# Altium schematic symbol library LCM.SchLib: 3 symbols
Pins are listed as number, name and electrical type; pins without a type are passive.

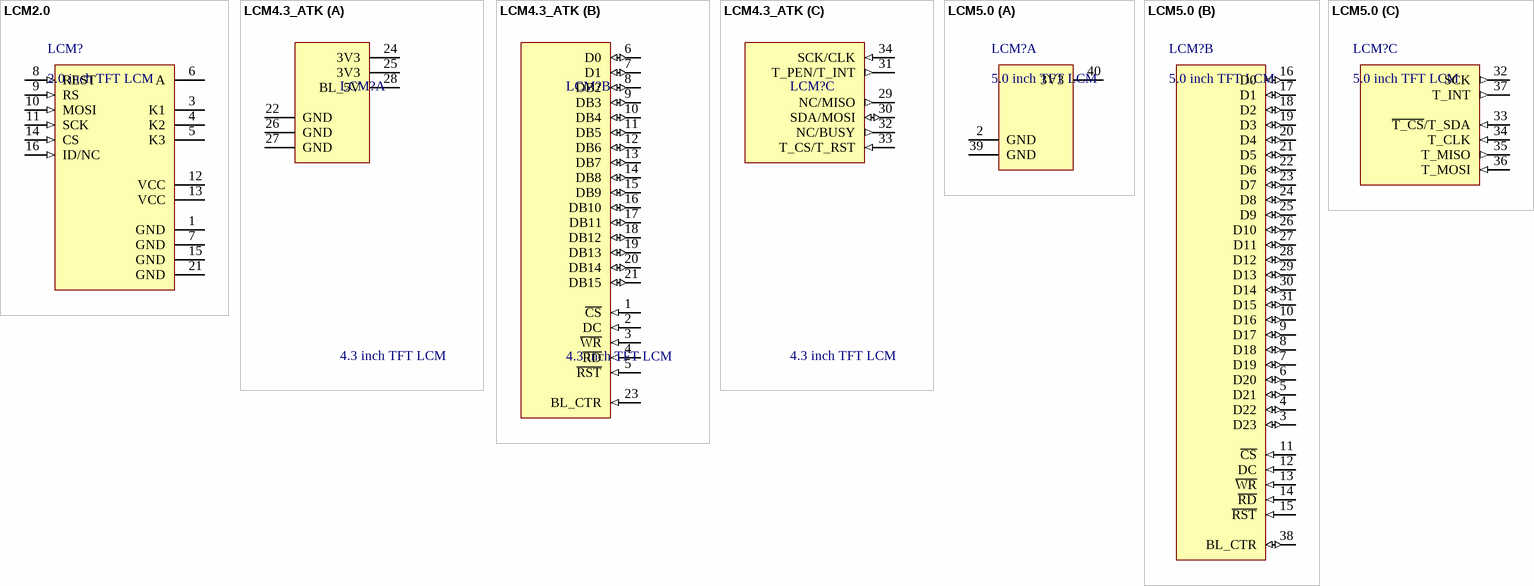
[diagram p0: symbols LCM2.0 to LCM5.0]

## LCM2.0
designator LCM?, comment 2.0 inch TFT LCM
footprint LCM2.0 (Footprint not found)
pins: 1 GND (power), 3 K1 (power), 4 K2 (power), 5 K3 (power), 6 A (power), 7 GND (power), 8 REST (in), 9 RS (in), 10 MOSI (in), 11 SCK (in), 12 VCC (power), 13 VCC (power), 14 CS (in), 15 GND (power), 16 ID/NC (in), 21 GND (power)

## LCM4.3_ATK
designator LCM?, comment 4.3 inch TFT LCM
footprint LCM4.3_ATK
part A pins: 22 GND, 24 3V3, 25 3V3, 26 GND, 27 GND, 28 BL_5V
part B pins: 1 ~{CS} (in), 2 DC (in), 3 ~{WR} (in), 4 ~{RD} (in), 5 ~{RST} (in), 6 D0 (io), 7 D1 (io), 8 DB2 (io), 9 DB3 (io), 10 DB4 (io), 11 DB5 (io), 12 DB6 (io), 13 DB7 (io), 14 DB8 (io), 15 DB9 (io), 16 DB10 (io), 17 DB11 (io), 18 DB12 (io), 19 DB13 (io), 20 DB14 (io), 21 DB15 (io), 23 BL_CTR (in)
part C pins: 29 NC/MISO (out), 30 SDA/MOSI (io), 31 T_PEN/T_INT (out), 32 NC/BUSY (out), 33 T_CS/T_RST (in), 34 SCK/CLK (in)

## LCM5.0
designator LCM?, comment 5.0 inch TFT LCM
footprint LCM5.0
part A pins: 2 GND (power), 39 GND (power), 40 3V3 (power)
part B pins: 3 D23 (io), 4 D22 (io), 5 D21 (io), 6 D20 (io), 7 D19 (io), 8 D18 (io), 9 D17 (io), 10 D16 (io), 11 ~{CS} (in), 12 DC (in), 13 ~{WR} (in), 14 ~{RD} (in), 15 ~{RST} (in), 16 D0 (io), 17 D1 (io), 18 D2 (io), 19 D3 (io), 20 D4 (io), 21 D5 (io), 22 D6 (io), 23 D7 (io), 24 D8 (io), 25 D9 (io), 26 D10 (io), 27 D11 (io), 28 D12 (io), 29 D13 (io), 30 D14 (io), 31 D15 (io), 38 BL_CTR (io)
part C pins: 32 SCK (out), 33 ~{T_CS}/T_SDA (in), 34 T_CLK (in), 35 T_MISO (out), 36 T_MOSI (in), 37 T_INT (out)